# EAGLE library part ACT4060A (library VistelV3)
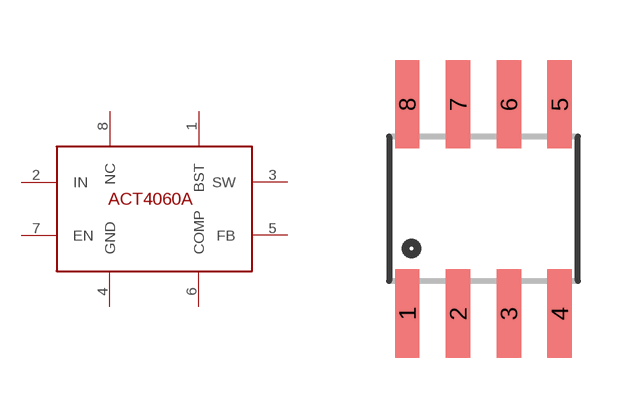
[diagram p1: symbol with the pads of SO08; footprint SO08]

Designator prefix -

## ACT4060A  [SO08]
1  BST
2  IN
3  SW
4  GND
5  FB
6  COMP
7  EN
8  NC

## Footprint SO08 (pad centres in mm)
Small Outline Package Fits JEDEC packages (narrow SOIC-8)
smd 0.61 x 2.21: 1 -1.905,-2.616; 2 -0.635,-2.616; 3 0.635,-2.616; 4 1.905,-2.616; 5 1.905,2.616; 6 0.635,2.616; 7 -0.635,2.616; 8 -1.905,2.616